# EAGLE library part ADUM3160/4160 (library systas0)
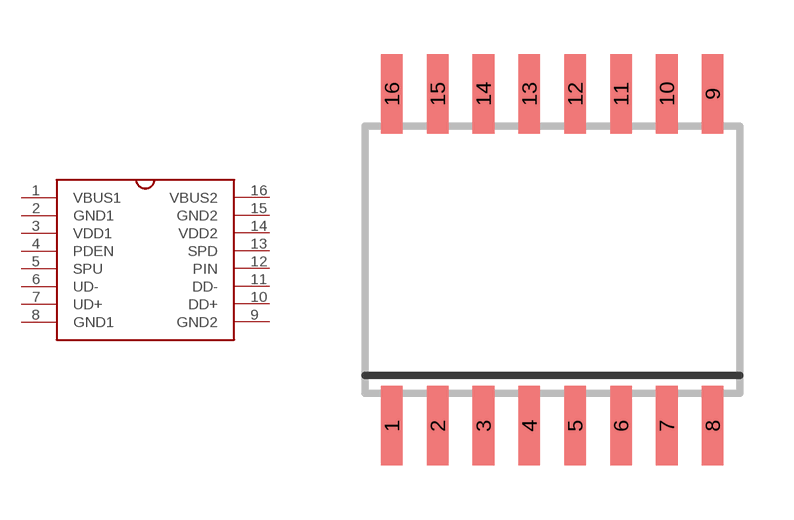
[diagram p7: symbol with the pads of SO-16W; footprint SO-16W]

Designator prefix -

## ADUM3160/4160  [SO-16W]
1  VBUS1
2  GND1
3  VDD1
4  PDEN
5  SPU
6  UD-
7  UD+
8  GND1
9  GND2
10  DD+
11  DD-
12  PIN
13  SPD
14  VDD2
15  GND2
16  VBUS2

## Footprint SO-16W (pad centres in mm)
smd 0.6 x 2.2: 1 -4.445,-4.6; 2 -3.175,-4.6; 3 -1.905,-4.6; 4 -0.635,-4.6; 5 0.635,-4.6; 6 1.905,-4.6; 7 3.175,-4.6; 8 4.445,-4.6; 9 4.445,4.6; 10 3.175,4.6; 11 1.905,4.6; 12 0.635,4.6; 13 -0.635,4.6; 14 -1.905,4.6; 15 -3.175,4.6; 16 -4.445,4.6